# EAGLE library part TPS63020DSJR (library TPS63020DSJR Texas Instruments)
High Efficiency Single Inductor Buck-Boost Converter with 4A Switch Buy Part <https://snapeda.com/parts/TPS63020DSJR/Texas%20Instruments/view-part/?ref=eda> Check prices <https://snapeda.com/parts/TPS63020DSJR/Texas%20Instruments/view-part/?ref=eda> Check availability <https://pricing.snapeda.com/parts/TPS63020DSJR/Texas%20Instruments/view-part?ref=eda>
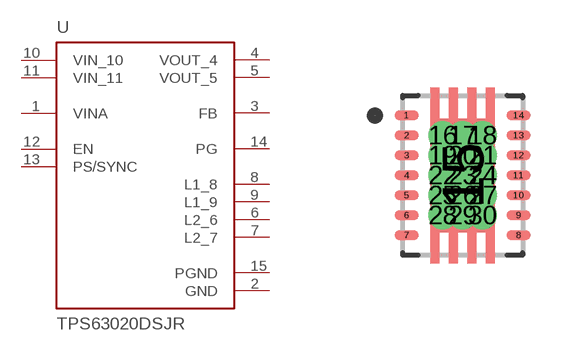
[diagram p0: symbol with the pads of IC_TPS63020DSJR; footprint IC_TPS63020DSJR]

Designator prefix U

## TPS63020DSJR (Availability: In Stock; Check_prices: https://www.snapeda.com/parts/TPS63020DSJR/Texas+Instruments/view-part/?ref=eda; Description: High Efficiency Single Inductor Buck-Boost Converter with 4A Switch; MF: Texas Instruments; MP: TPS63020DSJR; Package: VSON-14 Texas Instruments; Price: None; Purchase-URL: https://www.snapeda.com/api/url_track_click_mouser/?unipart_id=296571&manufacturer=Texas Instruments&part_name=TPS63020DSJR&search_term=None; SnapEDA_Link: https://www.snapeda.com/parts/TPS63020DSJR/Texas+Instruments/view-part/?ref=snap)  [IC_TPS63020DSJR]
1  VINA  in
2  GND  pwr
3  FB  in
4  VOUT_4  out
5  VOUT_5  out
6  L2_6  pas
7  L2_7  pas
8  L1_8  pas
9  L1_9  pas
10  VIN_10  in
11  VIN_11  in
12  EN  in
13  PS/SYNC  in
14  PG  out
15  PGND  pwr

## Footprint IC_TPS63020DSJR (pad centres in mm)
smd 0.6 x 0.24: 1 -1.4,1.5; 2 -1.4,1; 3 -1.4,0.5; 4 -1.4,0; 5 -1.4,-0.5; 6 -1.4,-1; 7 -1.4,-1.5; 8 1.4,-1.5; 9 1.4,-1; 10 1.4,-0.5; 11 1.4,0; 12 1.4,0.5; 13 1.4,1; 14 1.4,1.5
smd 1.5 x 2.8: 15 0,0
drill 0.2 pad 0.3: 16 -0.5,1; 17 0,1; 18 0.5,1; 19 -0.5,0.5; 20 0,0.5; 21 0.5,0.5; 22 -0.5,0; 23 0,0; 24 0.5,0; 25 -0.5,-0.5; 26 0,-0.5; 27 0.5,-0.5; 28 -0.5,-1; 29 0,-1; 30 0.5,-1